# Altium schematic symbol library Sensor.SchLib: 2 symbols
Pins are listed as number, name and electrical type; pins without a type are passive.

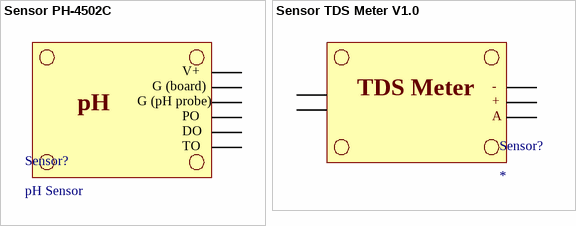
[diagram p0: symbols Sensor PH-4502C to Sensor TDS Meter V1.0]

## Sensor PH-4502C
designator Sensor?, comment pH Sensor
footprint Sensor PH-4502C (pH Sensor)
text: V+; G (board); G (pH probe); pH; PO; DO; TO

## Sensor TDS Meter V1.0
designator Sensor?
footprint Sensor TDS Meter V1.0 (pH Sensor)
text: -; TDS Meter; +; A